# Altium footprint library SR PCB Library V01.PcbLib: 402 footprints (part 11 of 26)
Each footprint in its own frame and in the unit in brackets; x right, y up, seen from the top. Pads: shape width x height; smd on the part's side, far side on the other; paste and mask are expansions set on the pad; w line width, h text height; cw(c..) or ccw(c..) is an arc to the next point about the centre after c.
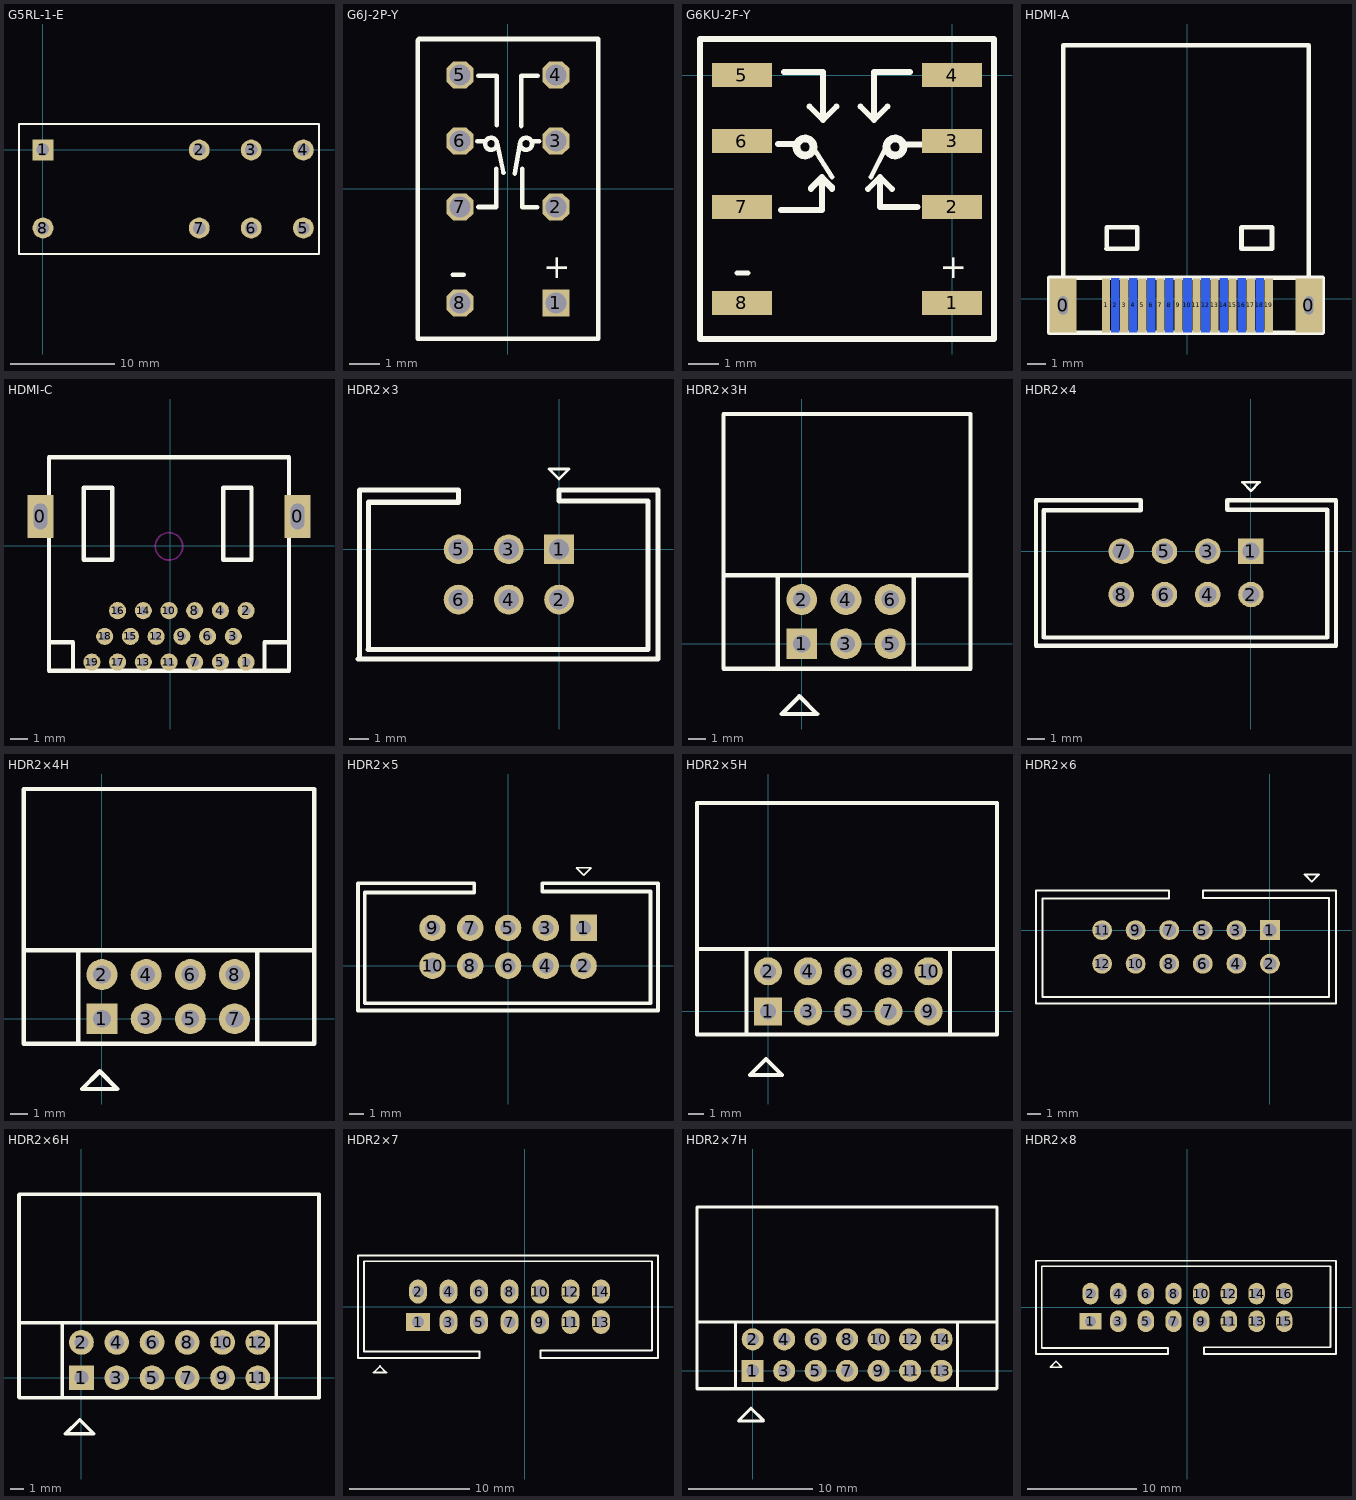
[diagram p10: the footprints below, top view; thin cyan lines are the x and y axes]

## G5RL-1-E [mm]
pads (8):
  rect 2x2 hole 1.2: 1(0,0)
  round 2 hole 1.2: 2(15,0) 3(20,0) 4(25,0) 5(25,-7.5) 6(20,-7.5) 7(15,-7.5) 8(0,-7.5)
Top Overlay:
  lines w0.2: -2.3,-10 -2.3,2.5 26.5,2.5 26.5,-10 -2.3,-10

## G6J-2P-Y [mm]
height 2.54
pads (8):
  rect 0.9x0.9 hole 0.7: 1(1.6,-3.8)
  oct 0.9x0.9 hole 0.7: 2(1.6,-0.6) 3(1.6,1.6) 4(1.6,3.8) 5(-1.6,3.8) 6(-1.6,1.6) 7(-1.6,-0.6) 8(-1.6,-3.8)
Top Overlay:
  circle w0.152: c0.607,1.503 r0.2
  circle w0.152: c-0.561,1.503 r0.2
  lines w0.1: -3.008,4.955 -2.966,4.996 ; -1.321,3.8 -1.253,3.8 ; 3.007,-4.994 3.017,-5.004 ; 3.007,4.996 3.007,4.996 ; 3.007,4.996 3.007,4.996
  lines w0.152: -3.008,4.955 -3.008,-4.994 3.007,-4.994 3.007,4.996 -2.966,4.996 ; -1.836,-2.865 -1.466,-2.865 ; -1.016,1.585 -0.762,1.585 ; -0.991,3.766 -0.373,3.766 -0.373,2.616 -0.373,2.126 ; -0.987,-0.604 -0.383,-0.604 -0.383,0.666 ; -0.361,1.503 -0.146,0.538 ; 0.233,0.513 0.409,1.559 ; 0.444,2.097 0.444,3.776 0.99,3.776 ; 0.477,0.666 0.477,-0.614 0.985,-0.614 ; 0.827,1.585 1.04,1.585
  text "+" at 1.984,-3.101 h0.8

## G6KU-2F-Y [mm]
pads (8):
  rect 2x0.8 smd: 1(0,-7.6) 2(0,-4.4) 3(0,-2.2) 4(0,0) 5(-7,0) 6(-7,-2.2) 7(-7,-4.4) 8(-7,-7.6)
Top Overlay:
  lines w0.152: -7.17,-6.6 -6.8,-6.6 ; -4.616,-2.435 -4,-3.4 ; -2.7,-3.4 -2.224,-2.454
  lines w0.2: -5.8,-2.3 -5.2,-2.3 ; -5.7,-4.5 -4.34,-4.5 -4.34,-3.4 ; -5.6,0.1 -4.3,0.1 -4.3,-1.5 ; -4.75,-1.05 -4.3,-1.5 ; -3.85,-1.05 -4.3,-1.5 ; -3.05,-1.05 -2.6,-1.5 ; -2.15,-1.05 -2.6,-1.5 ; -1.632,-2.311 -1.032,-2.311 ; -1.4,0.1 -2.6,0.1 -2.6,-1.5 ; -1.15,-4.4 -2.4,-4.4 -2.4,-3.4 ; -4.34,-3.46 -4.34,-3.4 ; -4.34,-3.46 -4,-3.8 -4,-3.74 -4.34,-3.4 ; -4.34,-3.46 -4.34,-3.4 ; -4.34,-3.4 -4.7,-3.76 -4.7,-3.8 -4.34,-3.44 -4.34,-3.4 ; -4.3,-1.5 -4.3,-1.5 ; -2.4,-3.4 -2.8,-3.8 -2.4,-3.4 ; -2.4,-3.4 -2,-3.8 ; -2.4,-3.4 -2,-3.8 ; -2,-3.8 -2,-3.8 ; -2,-3.8 -2,-3.8 ; -8.4,-8.8 -8.4,1.2 1.4,1.2 1.4,-8.8 -8.4,-8.8
  lines w0.254: -4.632,-2.311 ccw(c-4.9,-2.4) -4.617,-2.4 ; -1.632,-2.311 ccw(c-1.9,-2.4) -1.617,-2.4
  text "+" at 0.4,-6.9 h0.8

## HDMI-A [mm]
pads (21):
  rect 1.5x3 hole 0.5 slot 1 at 90 deg: 0(-6.858,-0.356) 0(6.742,-0.356)
  rect 0.45x3 smd: 1(-4.477,-0.356) 3(-3.477,-0.356) 5(-2.477,-0.356) 7(-1.477,-0.356) 9(-0.477,-0.356) 11(0.523,-0.356) 13(1.523,-0.356) 15(2.523,-0.356) 17(3.523,-0.356) 19(4.523,-0.356)
  rect 0.45x3 smd far side: 2(-3.977,-0.356) 4(-2.977,-0.356) 6(-1.977,-0.356) 8(-0.977,-0.356) 10(0.023,-0.356) 12(1.023,-0.356) 14(2.023,-0.356) 16(3.023,-0.356) 18(4.023,-0.356)
Top Overlay:
  lines w0.254: -6.858,1.168 6.742,1.168 ; -6.858,1.168 -6.858,14.048 6.742,14.048 6.742,1.168 ; -6.858,1.168 -7.62,1.168 -7.62,-1.88 7.493,-1.88 7.493,1.168 6.742,1.168 ; -4.458,2.768 -2.758,2.768 -2.758,3.962 -4.445,3.962 -4.445,2.768 -4.458,2.768 ; 2.999,2.768 3.012,2.768 3.012,3.962 4.699,3.962 4.699,2.768 2.999,2.768

## HDMI-C [mm]
pads (21):
  rect 1.5x2.5 hole 0.8 slot 1.5 at 90 deg: 0(-7.587,1.71) 0(7.413,1.71)
  round 1 hole 0.5: 1(4.413,-6.79) 2(4.413,-3.79) 3(3.663,-5.29) 4(2.913,-3.79) 5(2.913,-6.79) 6(2.163,-5.29) 7(1.413,-6.79) 8(1.413,-3.79) 9(0.663,-5.29) 10(-0.087,-3.79) 11(-0.087,-6.79) 12(-0.837,-5.29) 13(-1.587,-6.79) 14(-1.587,-3.79) 15(-2.337,-5.29) 16(-3.087,-3.79) 17(-3.087,-6.79) 18(-3.837,-5.29) 19(-4.587,-6.79)
Top Overlay:
  lines w0.254: -7.087,-5.639 -5.69,-5.639 -5.69,-7.29 ; -4.587,-7.29 -4.587,-6.79 ; 5.486,-7.29 5.486,-5.639 6.883,-5.639 ; -7.087,-7.29 -7.087,5.156 6.913,5.156 6.913,-7.29 -7.087,-7.29 ; -5.055,-0.813 -3.404,-0.813 -3.404,3.378 -5.055,3.378 -5.055,-0.813 ; 3.073,-0.813 3.073,3.378 4.724,3.378 4.724,-0.813 3.073,-0.813
Keep-Out Layer:
  circle w0.1: c-0.087,-0.04 r0.8

## HDR2×3 [mm]
height 11
pads (6):
  rect 1.5x1.5 hole 1.016: 1(0,0)
  round 1.5 hole 1.016: 2(0,-2.54) 3(-2.54,0) 4(-2.54,-2.54) 5(-5.08,0) 6(-5.08,-2.54)
Top Overlay:
  lines w0.15: -0.508,4.064 0.508,4.064 0,3.556 -0.508,4.064
  lines w0.254: -10.16,-5.55 5,-5.55 ; -10.09,-5.55 -10.09,3 -5.08,3 -5.08,2.377 -9.637,2.377 -9.637,-5.067 ; -9.652,-5.067 4.488,-5.067 4.488,2.443 0,2.443 0,3 5,3 ; 5,-5.55 5,3 ; 5,-5.55 5,3

## HDR2×3H [mil]
height 433.07
pads (6):
  rect 70x70 hole 40: 1(0,0)
  round 70 hole 40: 2(0,100) 3(100,0) 4(100,100) 5(200,0) 6(200,100)
Top Overlay:
  lines w10: -177,-55 -177,519 ; -176.82,-57 381.89,-57 381.89,520 -176,520 ; -176.82,155.5 377.95,155.5 ; -54.15,-54 -54.15,155 ; 253.06,-56 253.06,155 ; -45.3,-159 -5.3,-119 34.7,-159 14.7,-159 -45.3,-159

## HDR2×4 [mm]
height 11
pads (8):
  rect 1.5x1.5 hole 1.016: 1(0,0)
  round 1.5 hole 1.016: 2(0,-2.54) 3(-2.54,0) 4(-2.54,-2.54) 5(-5.08,0) 6(-5.08,-2.54) 7(-7.62,0) 8(-7.62,-2.54)
Top Overlay:
  lines w0.15: -0.508,4.064 0.508,4.064 0,3.556 -0.508,4.064
  lines w0.254: -12.63,-5.55 -12.63,3 ; -12.624,3 -6.477,3 -6.477,2.413 -12.192,2.413 ; -12.598,-5.55 5,-5.55 ; -12.177,-5.067 -12.177,2.377 ; -12.167,-5.067 4.488,-5.067 4.488,2.443 -1.397,2.443 -1.397,3 5,3 ; 5,-5.55 5,3 ; 5,-5.55 5,3

## HDR2×4H [mil]
height 433.07
pads (8):
  rect 70x70 hole 40: 1(0,0)
  round 70 hole 40: 2(0,100) 3(100,0) 4(100,100) 5(200,0) 6(200,100) 7(300,0) 8(300,100)
Top Overlay:
  lines w10: -177,-55 -177,519 ; -176.82,-57 480.31,-57 480.31,520 -176,520 ; -176.82,155.5 480.31,155.5 ; -54.15,-54 -54.15,155 ; 351.49,-56 351.49,155 ; -45.3,-159 -5.3,-119 34.7,-159 14.7,-159 -45.3,-159

## HDR2×5 [mil]
pads (10):
  rect 70x70 hole 40: 1(200,100)
  round 70 hole 40: 2(200,0) 3(100,100) 4(100,0) 5(0,100) 6(0,0) 7(-100,100) 8(-100,0) 9(-200,100) 10(-200,0)
Top Overlay:
  lines w3.94: 180,260 220,260 200,240 180,260
  lines w10: 396.85,-118.5 396.85,218.11 ; 396.85,-118.5 396.85,218.11 ; 396.85,-118.5 -397.24,-118.5 -397.24,218.11 -89.6,218.11 -89.6,193.6 -379.4,193.6 -379.4,-99.5 376.7,-99.5 376.7,196.2 90.7,196.2 90.7,218.11 396.85,218.11

## HDR2×5H [mil]
pads (10):
  rect 70x70 hole 40: 1(0,0)
  round 70 hole 40: 2(0,100) 3(100,0) 4(100,100) 5(200,0) 6(200,100) 7(300,0) 8(300,100) 9(400,0) 10(400,100)
Top Overlay:
  lines w10: -177,-55 -177,519 ; -176.82,-57 570.87,-57 570.87,520 -176,520 ; -176.82,155.5 570.87,155.5 ; -54.15,-54 -54.15,155 ; 453.85,-56 453.85,155 ; -45.3,-159 14.7,-159 34.7,-159 -5.3,-119 -45.3,-159

## HDR2×6 [mm]
pads (12):
  rect 1.5x1.5 hole 1.016: 1(0,0)
  round 1.5 hole 1.016: 2(0,-2.54) 3(-2.54,0) 4(-2.54,-2.54) 5(-5.08,0) 6(-5.08,-2.54) 7(-7.62,0) 8(-7.62,-2.54) 9(-10.16,0) 10(-10.16,-2.54) 11(-12.7,0) 12(-12.7,-2.54)
Top Overlay:
  lines w0.15: -17.7,-5.55 -17.7,3 ; -17.68,3 -7.62,3 -7.62,2.377 -17.17,2.377 ; -17.63,-5.55 5,-5.55 ; -17.2,-5.067 -17.2,2.377 ; -17.15,-5.067 4.488,-5.067 4.488,2.443 -5.08,2.443 -5.08,3 5,3 ; 5,-5.55 5,3 ; 5,-5.55 5,3 ; 2.634,4.21 3.142,4.21 3.706,4.21 3.17,3.674 2.634,4.21

## HDR2×6H [mil]
pads (12):
  rect 70x70 hole 40: 1(0,0)
  round 70 hole 40: 2(0,100) 3(100,0) 4(100,100) 5(200,0) 6(200,100) 7(300,0) 8(300,100) 9(400,0) 10(400,100) 11(500,0) 12(500,100)
Top Overlay:
  lines w10: -177,-55 -177,519 ; -176.82,-57 673.23,-57 673.23,520 -176,520 ; -176.82,155.5 673.23,155.5 ; -54.15,-54 -54.15,155 ; 552.28,-56 552.28,155 ; -45.3,-159 14.7,-159 34.7,-159 -5.3,-119 -45.3,-159

## HDR2×7 [mm]
pads (14):
  rect 2x1.5 hole 1.016: 1(-8.89,-1.27)
  oval 1.5x2 hole 1.016: 2(-8.89,1.27) 3(-6.35,-1.27) 4(-6.35,1.27) 5(-3.81,-1.27) 6(-3.81,1.27) 7(-1.27,-1.27) 8(-1.27,1.27) 9(1.27,-1.27) 10(1.27,1.27) 11(3.81,-1.27) 12(3.81,1.27) 13(6.35,-1.27) 14(6.35,1.27)
Top Overlay:
  lines w0.15: 5.72,3.797 10.596,3.797 10.596,-3.647 ; 6.2,4.28 11.096,4.28 11.096,-4.27 ; 8.26,3.797 -13.378,3.797 -13.378,-3.713 -3.759,-3.713 -3.759,-4.27 -13.89,-4.27 ; 8.74,4.28 -13.89,4.28 ; 10.592,-3.647 1.321,-3.647 1.321,-4.27 11.1,-4.27 ; -13.89,-4.27 -13.89,4.28 ; -13.89,-4.27 -13.89,4.28 ; -12.596,-5.48 -12.032,-5.48 -11.524,-5.48 -12.06,-4.944 -12.596,-5.48

## HDR2×7H [mil]
pads (14):
  rect 70x70 hole 40: 1(0,0)
  round 70 hole 40: 2(0,100) 3(100,0) 4(100,100) 5(200,0) 6(200,100) 7(300,0) 8(300,100) 9(400,0) 10(400,100) 11(500,0) 12(500,100) 13(600,0) 14(600,100)
Top Overlay:
  lines w10: -177,-55 -177,519 ; -176.82,-57 774.94,-57 ; -176.82,155.5 775.64,155.5 ; -176,520 775,520 ; -54.15,-54 -54.15,155 ; 650.7,-56 650.7,155 ; 776,-56 776,520 ; -45.3,-159 14.7,-159 34.7,-159 -5.3,-119 -45.3,-159

## HDR2×8 [mm]
pads (16):
  rect 2x1.5 hole 1.016: 1(-8.89,-1.27)
  oval 1.5x2 hole 1.016: 2(-8.89,1.27) 3(-6.35,-1.27) 4(-6.35,1.27) 5(-3.81,-1.27) 6(-3.81,1.27) 7(-1.27,-1.27) 8(-1.27,1.27) 9(1.27,-1.27) 10(1.27,1.27) 11(3.81,-1.27) 12(3.81,1.27) 13(6.35,-1.27) 14(6.35,1.27) 15(8.89,-1.27) 16(8.89,1.27)
Top Overlay:
  lines w0.15: 13.106,-3.647 1.524,-3.647 1.524,-4.27 13.616,-4.27 ; 13.136,-3.647 13.136,3.797 8.26,3.797 -13.378,3.797 -13.378,-3.713 -1.778,-3.713 -1.778,-4.27 -13.89,-4.27 ; 13.636,-4.27 13.636,4.28 8.74,4.28 -13.89,4.28 ; -13.89,-4.27 -13.89,4.28 ; -13.89,-4.27 -13.89,4.28 ; -12.596,-5.48 -12.06,-4.944 -11.524,-5.48 -12.032,-5.48 -12.596,-5.48